# Altium footprint library PAL.PcbLib: 271 footprints (part 5 of 17)
Each footprint in its own frame and in the unit in brackets; x right, y up, seen from the top. Pads: shape width x height; smd on the part's side, far side on the other; paste and mask are expansions set on the pad; w line width, h text height; cw(c..) or ccw(c..) is an arc to the next point about the centre after c.
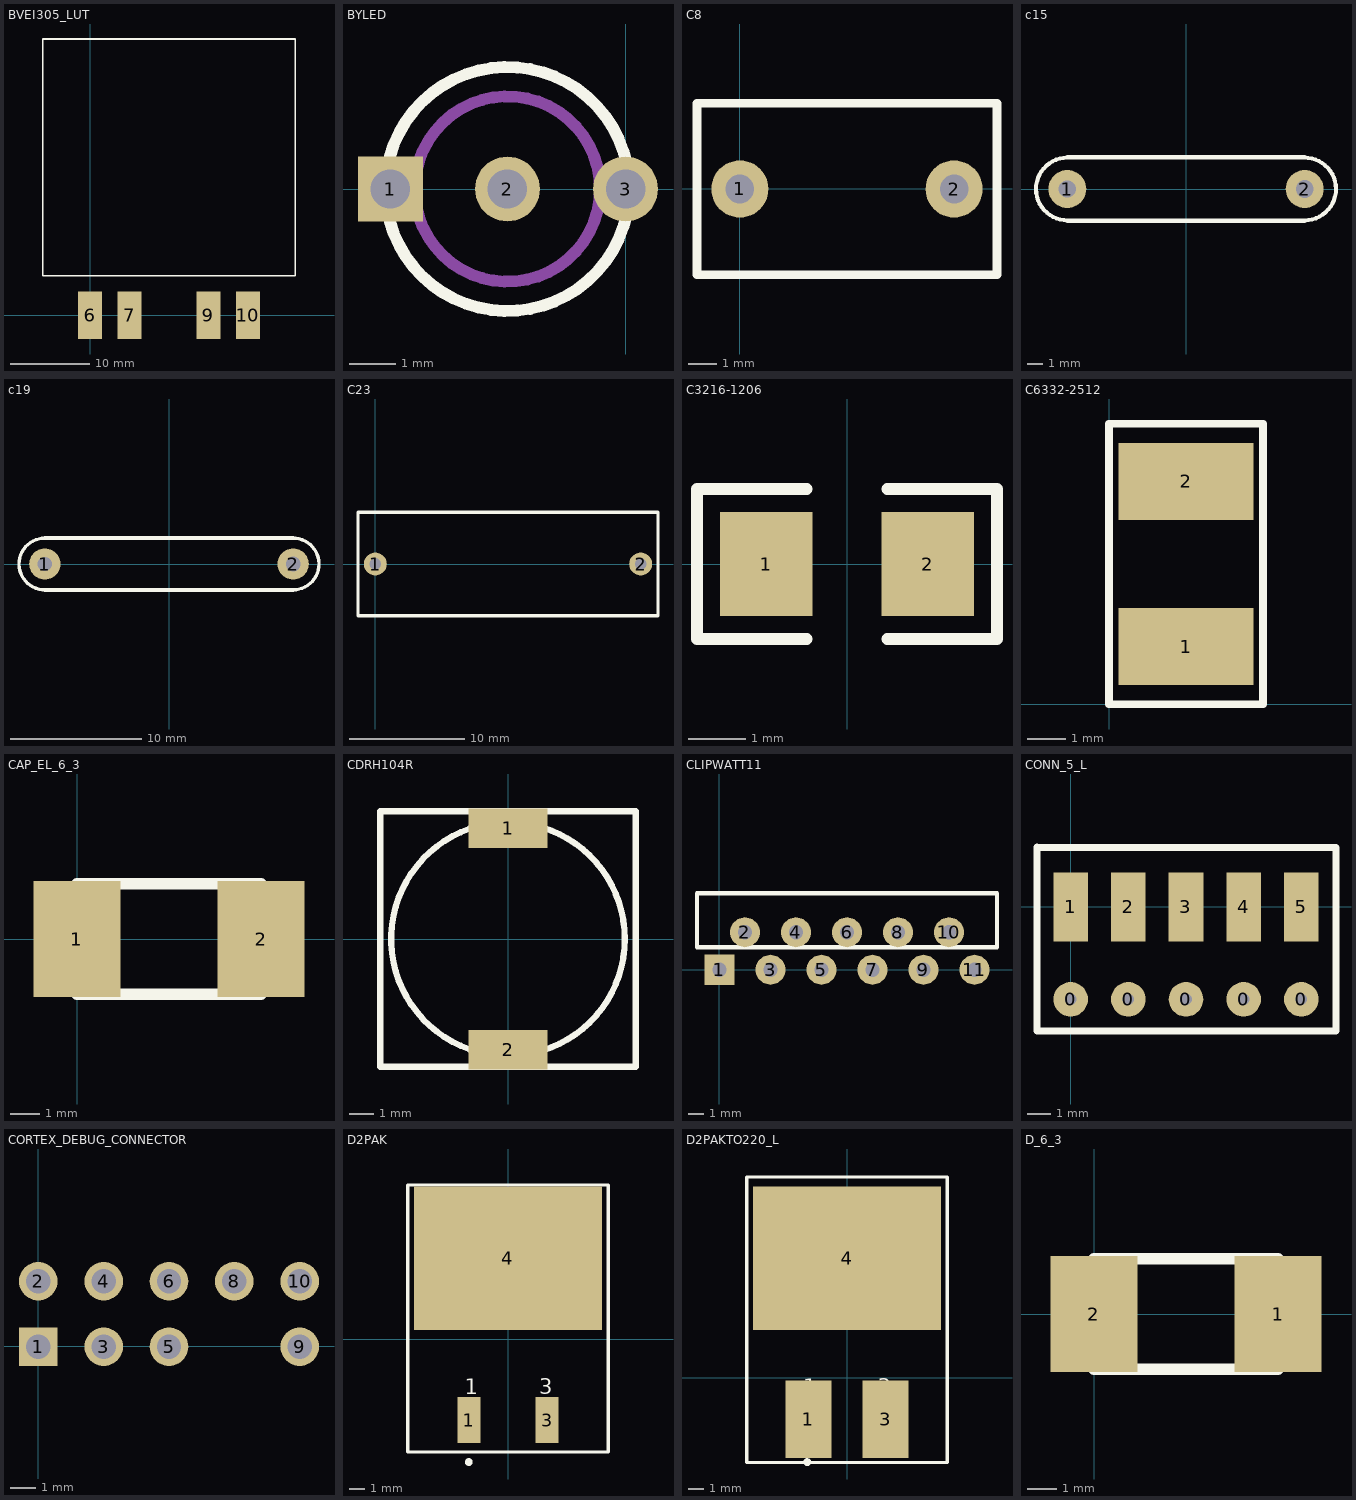
[diagram p4: the footprints below, top view; thin cyan lines are the x and y axes]

## BVEI305_LUT [mm] "BVEI305_LUT"
pads (4):
  rect 3x6 smd: 6(0,0) 7(5,0) 9(15,0) 10(20,0)
Top Overlay:
  lines w0.2: -6,5 10,5 26,5 26,35 -6,35 -6,5

## BYLED [mm]
pads (3):
  rect 1.4x1.4 on Top hole 0.85: 1(-5.077,0.007)
  round 1.4 on Top hole 0.85: 2(-2.552,0.007) 3(-0.002,0.007)
Top Overlay:
  circle w0.254: c-2.552,0.007 r2.633
Mechanical 4:
  circle w0.254: c-2.552,0.007 r2
Mechanical 5:
  circle w0.254: c-2.552,0.007 r2

## C8 [mm]
pads (2):
  round 2 on Top hole 1: 1(-0.002,-0.008) 2(7.498,-0.008)
Top Overlay:
  lines w0.3: -1.502,-3.008 8.998,-3.008 8.998,2.992 -1.502,2.992 -1.502,-3.008

## c15 [mm]
pads (2):
  round 2.4 on Top hole 1.1: 1(-7.5,0)
  round 2.4 on Top hole 1.11: 2(7.5,0)
Top Overlay:
  lines w0.254: -7.5,1.977 ccw(c-7.5,0) -7.475,-1.977 ; 7.475,1.977 cw(c7.5,0) 7.5,-1.977
  lines w0.3: -7.5,-2 7.5,-2 ; -7.5,2 7.5,2

## c19 [mm]
pads (2):
  round 2.4 on Top hole 1.1: 1(-9.5,0)
  round 2.4 on Top hole 1.11: 2(9.5,0)
Top Overlay:
  lines w0.254: -9.5,1.978 ccw(c-9.5,0) -9.475,-1.977 ; 9.475,1.977 cw(c9.5,0) 9.5,-1.978
  lines w0.3: -9.5,-2 9.5,-2 ; -9.5,2 9.5,2

## C23 [mm]
pads (2):
  round 2 on Top hole 1: 1(0,0) 2(23,0)
Top Overlay:
  lines w0.3: -1.5,-4.5 24.5,-4.5 24.5,4.5 -1.5,4.5 -1.5,-4.5

## C3216-1206 [mm]
pads (2):
  rect 1.6x1.8 smd: 1(-1.405,0.002) 2(1.395,0.002)
Top Overlay:
  lines w0.2: -0.705,-1.298 -2.605,-1.298 -2.605,1.302 -0.705,1.302 ; 0.695,-1.298 2.595,-1.298 2.595,1.302 0.695,1.302

## C6332-2512 [mm]
pads (2):
  rect 3.5x2 smd: 1(2,1.5) 2(2,5.8)
Top Overlay:
  lines w0.2: 0,0 4,0 4,7.3 0,7.3 0,0

## CAP_EL_6_3 [mm]
pads (2):
  rect 3x4 smd: 1(-0.011,0.006) 2(6.339,0.006)
Top Overlay:
  lines w0.4: 1.259,-1.899 1.259,1.911 ; -0.011,-1.899 -0.011,0.006 -0.011,1.911 6.339,1.911 6.339,-1.899 -0.011,-1.899

## CDRH104R [mm]
pads (2):
  rect 3.2x1.6 smd: 1(0,4.5) 2(0,-4.5)
Top Overlay:
  circle w0.254: c0,0 r4.75
  lines w0.254: -5.2,-5.2 0,-5.2 5.2,-5.2 5.2,0 5.2,5.2 0,5.2 -5.2,5.2 -5.2,0 -5.2,-5.2

## CLIPWATT11 [mm]
pads (11):
  rect 2x2 on Top hole 0.95: 1(0.022,-0.004)
  round 2 on Top hole 0.95: 2(1.722,2.496) 3(3.422,-0.004) 4(5.122,2.496) 5(6.822,-0.004) 6(8.522,2.496) 7(10.222,-0.004) 8(11.922,2.496) 9(13.622,-0.004) 10(15.322,2.496) 11(17.022,-0.004)
Top Overlay:
  lines w0.3: -1.478,1.496 -1.478,5.096 8.522,5.096 18.522,5.096 18.522,1.496 -1.478,1.496

## CONN_5_L [mm]
pads (10):
  round 1.5 on Top hole 0.5: 0(0,-4) 0(2.5,-4) 0(5,-4) 0(7.5,-4) 0(10,-4)
  rect 1.5x3 smd: 1(0,0) 2(2.5,0) 3(5,0) 4(7.5,0) 5(10,0)
Top Overlay:
  lines w0.3: -1.45,2.575 -1.45,-5.375 11.5,-5.375 11.5,2.575 -1.425,2.575 -1.45,2.6

## CORTEX_DEBUG_CONNECTOR [mm]
pads (9):
  rect 1.5x1.5 on Top hole 0.95: 1(0.001,-0.012)
  round 1.5 on Top hole 0.95: 2(0.001,2.528) 3(2.541,-0.012) 4(2.541,2.528) 5(5.081,-0.012) 6(5.081,2.528) 8(7.621,2.528) 9(10.161,-0.012) 10(10.161,2.528)

## D2PAK [mm]
pads (3):
  rect 1.5x3 smd: 1(-2.558,-5.253) 3(2.522,-5.253)
  rect 12.2x9.3 smd: 4(-0.018,5.247)
Top Overlay:
  circle w0.25: c-2.558,-7.978 r0.125
  lines w0.2: -6.518,-7.328 -6.518,9.998 6.482,9.998 6.482,-7.328 -6.518,-7.328
  text "1" at -2.808,-3.578 h1
  text "3" at 2.014,-3.578 h1

## D2PAKTO220_L [mm]
pads (3):
  rect 3x5 smd: 1(-2.5,-2.7) 3(2.5,-2.7)
  rect 12.2x9.3 smd: 4(0,7.75)
Top Overlay:
  circle w0.25: c-2.583,-5.478 r0.125
  lines w0.2: -6.5,-5.5 6.5,-5.5 6.5,13 -6.5,13 -6.5,-5.5
  text "3" at 1.989,-1.078 h1
  text "1" at -2.833,-1.078 h1

## D_6_3 [mm]
pads (2):
  rect 3x4 smd: 1(6.341,0.006) 2(-0.009,0.006)
Top Overlay:
  lines w0.4: 1.261,-1.899 1.261,1.911 ; -0.009,-1.899 -0.009,0.006 -0.009,1.911 6.341,1.911 6.341,-1.899 -0.009,-1.899